# EAGLE library part LPC1114FDH28_ICHIGOJAM (library nxp_60_1_1)
32-bit ARM Cortex-M0 microcontroller; up to 64 kB flash and 8 kB SRAM The LPC1110/11/12/13/14/15 are a ARM Cortex-M0 based, low-cost 32-bit MCU family, designed for 8/16-bit microcontroller applications, offering performance, low power, simple instruction set and memory addressing together with reduced code size compared to existing 8/16-bit architectures. The LPC1110/11/12/13/14/15 operate at CPU frequencies of up to 50 MHz. The peripheral complement of the LPC1110/11/12/13/14/15 includes up to 64 kB of flash memory, up to 8 kB of data memory, one Fast-mode Plus I 2 C-bus interface, one RS-485/EIA-485 UART, up to two SPI interfaces with SSP features, four general purpose counter/timers, a 10-bit ADC, and up to 42 general purpose I/O pins. Remark: The LPC111x series consists of the LPC1100 series (parts LPC111x/101/201/301), LPC1100L series (parts LPC111x/002/102/202/302), and the LPC1100XL series (parts LPC111x/103/203/303/323/333). The LPC1100L and LPC1100XL series include the power profiles, a windowed watchdog timer, and a configurable open-drain mode. AAL Eindhoven MK
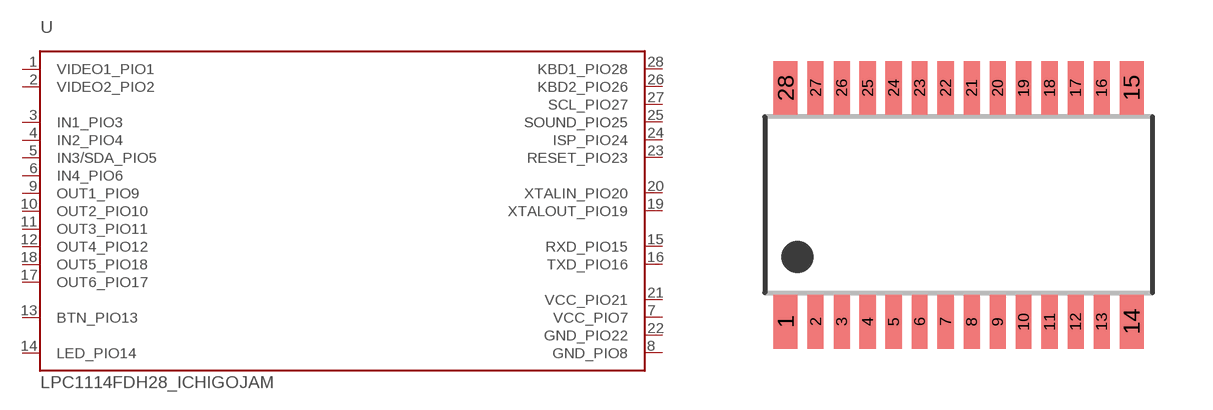
[diagram p234: symbol with the pads of SOT361-1; footprint SOT361-1]

Designator prefix U

## LPC1114FDH28_ICHIGOJAM/102 (ADC: 6; FLASH: 32kB; GPIO: 22; PWR_PROFILES: yes; SERIES: LPC1100L; SPI: 1; SRAM: 4kB)  [SOT361-1]
1  VIDEO1_PIO1
2  VIDEO2_PIO2
3  IN1_PIO3
4  IN2_PIO4
5  IN3/SDA_PIO5
6  IN4_PIO6
7  VCC_PIO7  pwr
8  GND_PIO8  pwr
9  OUT1_PIO9
10  OUT2_PIO10
11  OUT3_PIO11
12  OUT4_PIO12
13  BTN_PIO13
14  LED_PIO14
15  RXD_PIO15
16  TXD_PIO16
17  OUT6_PIO17
18  OUT5_PIO18
19  XTALOUT_PIO19  out
20  XTALIN_PIO20  in
21  VCC_PIO21  pwr
22  GND_PIO22  pwr
23  RESET_PIO23
24  ISP_PIO24
25  SOUND_PIO25
26  KBD2_PIO26
27  SCL_PIO27
28  KBD1_PIO28

## Footprint SOT361-1 (pad centres in mm)
SOT361-1 TSSOP28: plastic thin shrink small outline package; 28 leads; body width 4.4 mm JEDEC: MO-153 IEC: ---
smd 0.6 x 1.35: 1 -4.325,-2.925; 14 4.325,-2.925; 15 4.325,2.925; 28 -4.325,2.925
smd 0.4 x 1.35: 2 -3.575,-2.925; 3 -2.925,-2.925; 4 -2.275,-2.925; 5 -1.625,-2.925; 6 -0.975,-2.925; 7 -0.325,-2.925; 8 0.325,-2.925; 9 0.975,-2.925; 10 1.625,-2.925; 11 2.275,-2.925; 12 2.925,-2.925; 13 3.575,-2.925; 16 3.575,2.925; 17 2.925,2.925; 18 2.275,2.925; 19 1.625,2.925; 20 0.975,2.925; 21 0.325,2.925; 22 -0.325,2.925; 23 -0.975,2.925; 24 -1.625,2.925; 25 -2.275,2.925; 26 -2.925,2.925; 27 -3.575,2.925